# EAGLE library part 22-23-2091 (library sibosop-con-molex)
.100" (2.54mm) Center Header - 9 Pin
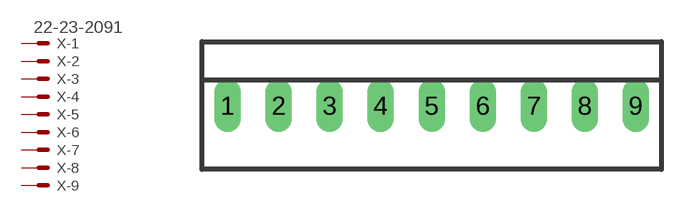
[diagram p20: symbol with the pads of 22-23-2091; footprint 22-23-2091]

Designator prefix X; gates -1=MV -2=M -3=M -4=M -5=M -6=M -7=M -8=M -9=M

## 22-23-2091  [22-23-2091]
1  -1:S  pas
2  -2:S  pas
3  -3:S  pas
4  -4:S  pas
5  -5:S  pas
6  -6:S  pas
7  -7:S  pas
8  -8:S  pas
9  -9:S  pas

## Footprint 22-23-2091 (pad centres in mm)
.100" (2.54mm) Center Header - 9 Pin
drill 0.813 long: 1 -10.16,0; 2 -7.62,0; 3 -5.08,0; 4 -2.54,0; 5 0,0; 6 2.54,0; 7 5.08,0; 8 7.62,0; 9 10.16,0